# Altium schematic symbol library Serial_NOR_Flash.SchLib: 4 symbols
Pins are listed as number, name and electrical type; pins without a type are passive.

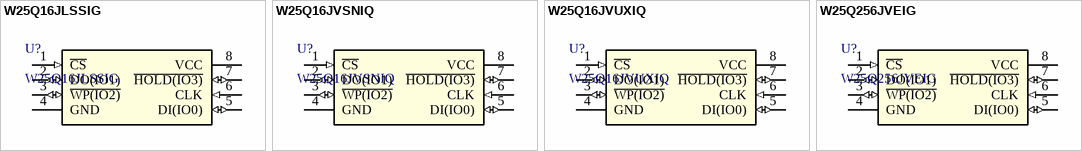
[diagram p0: symbols W25Q16JLSSIG to W25Q256JVEIG]

## W25Q16JLSSIG
designator U?
3V 16M-BIT / SERIAL FLASH MEMORY WITH / DUAL/QUAD SPI; Mfr_Name: Winbond; Revised By: Z_xiao; Copyright: Copyright (C) 2022 Ultra Librarian. All rights reserved.; Manufacturer_Part_Number: W25Q16JLSSIG; RefDes: RefDes; Type: DEV
footprint SOIC_16JLSSIG_WIN
footprint SOIC_16JLSSIG_WIN-L
footprint SOIC_16JLSSIG_WIN-M
pins: 1 ~{CS} (in), 2 DO(IO1) (io), 3 ~{WP(IO2)} (io), 4 GND (power), 5 DI(IO0) (io), 6 CLK (in), 7 ~{HOLD(IO3)} (io), 8 VCC (power)

## W25Q16JVSNIQ
designator U?
3V 16M-BIT / SERIAL FLASH MEMORY WITH / DUAL/QUAD SPI; Mfr_Name: Winbond; Revised By: Z_xiao; Copyright: Copyright (C) 2022 Ultra Librarian. All rights reserved.; Manufacturer_Part_Number: W25Q16JVSNIQ; RefDes: RefDes; Type: DEV
footprint SOIC_150MIL_WIN
footprint SOIC_150MIL_WIN-L
footprint SOIC_150MIL_WIN-M
pins: 1 ~{CS} (in), 2 DO(IO1) (io), 3 ~{WP(IO2)} (io), 4 GND (power), 5 DI(IO0) (io), 6 CLK (in), 7 ~{HOLD(IO3)} (io), 8 VCC (power)

## W25Q16JVUXIQ
designator U?
3V 16M-BIT / SERIAL FLASH MEMORY WITH / DUAL/QUAD SPI; Mfr_Name: Winbond; Revised By: Z_xiao; Copyright: Copyright (C) 2022 Ultra Librarian. All rights reserved.; Manufacturer_Part_Number: W25Q16JVUXIQ; RefDes: RefDes; Type: DEV
footprint W25Q16JVUXIQ_WIN
footprint W25Q16JVUXIQ_WIN-L
footprint W25Q16JVUXIQ_WIN-M
pins: 1 ~{CS} (in), 2 DO(IO1) (io), 3 ~{WP(IO2)} (io), 4 GND (power), 5 DI(IO0) (io), 6 CLK (in), 7 ~{HOLD(IO3)} (io), 8 VCC (power)

## W25Q256JVEIG
designator U?
3V 256M-BIT / SERIAL FLASH MEMORY WITH / DUAL/QUAD SPI; Mfr_Name: Winbond; Manufacturer_Part_Number: W25Q256FVEIG; Revised By: Z_xiao; Copyright: Copyright (C) 2022 Ultra Librarian. All rights reserved.; RefDes: RefDes; Type: DEV
footprint WIN_E-8_WIN
footprint WIN_E-8_WIN-L
footprint WIN_E-8_WIN-M
pins: 1 ~{CS} (in), 2 DO(IO1) (io), 3 ~{WP(IO2)} (io), 4 GND (power), 5 DI(IO0) (io), 6 CLK (in), 7 ~{HOLD(IO3)} (io), 8 VCC (power)